# Altium schematic symbol library CC254xPM.SchLib: 1 symbol
Pins are listed as number, name and electrical type; pins without a type are passive.

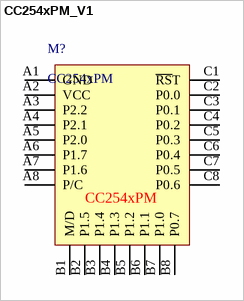
[diagram p0: symbol CC254xPM_V1]

## CC254xPM_V1
designator M?, comment CC254xPM
footprint CC254xPMV1
pins: A1 GND, A2 VCC, A3 P2.2, A4 P2.1, A5 P2.0, A6 P1.7, A7 P1.6, A8 P/C, B1 M/D, B2 P1.5, B3 P1.4, B4 P1.3, B5 P1.2, B6 P1.1, B7 P1.0, B8 P0.7, C1 ~{RS}T, C2 P0.0, C3 P0.1, C4 P0.2, C5 P0.3, C6 P0.4, C7 P0.5, C8 P0.6